# EAGLE library part 2505A-08G4T (library special)
Mobile Phone Battery Connector
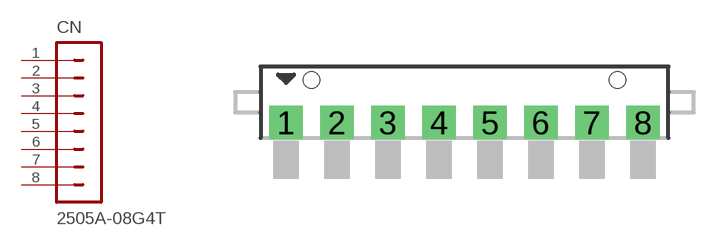
[diagram p15: symbol with the pads of 2505A-08G4T; footprint 2505A-08G4T]

Designator prefix CN

## 2505A-08G4T  [2505A-08G4T]
1  1  pas
2  2  pas
3  3  pas
4  4  pas
5  5  pas
6  6  pas
7  7  pas
8  8  pas

## Footprint 2505A-08G4T (pad centres in mm)
Mobile Phone Battery Connector 250105MR008S400ZU (old part# 2505A-08G4T)
drill 1.1 square: 1 -8.75,0; 2 -6.25,0; 3 -3.75,0; 4 -1.25,0; 5 1.25,0; 6 3.75,0; 7 6.25,0; 8 8.75,0
hole 0.8 at -7.5,2.1
hole 0.8 at 7.5,2.1